# Altium schematic symbol library ABM3-16.000MHZ-B4Y-T.SchLib: 1 symbol
Pins are listed as number, name and electrical type; pins without a type are passive.

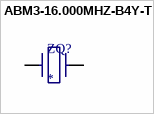
[diagram p0: symbol ABM3-16.000MHZ-B4Y-T]

## ABM3-16.000MHZ-B4Y-T
designator ZQ?  (mechanical)
16MHz Â±30ppm Crystal 18pF 40 Ohms 2-SMD, No Lead; MP: ABM3-16.000MHZ-B4Y-T; MF: Abracon; Digi-Key_Part_Number: 535-13579-1-ND; Package: SMD-2 Abracon; Purchase-URL: https://pricing.snapeda.com/search/part/ABM3-16.000MHZ-B4Y-T/?ref=eda; SnapEDA_Link: https://www.snapeda.com/parts/ABM3-16.000MHZ-B4Y-T/Abracon%20LLC/view-part/552784/?ref=snap; Value: *; Check_prices: https://www.snapeda.com/parts/ABM3-16.000MHZ-B4Y-T/Abracon%20LLC/view-part/552784/?ref=eda
footprint XTAL500X320X130N
pins: 1, 2